# Altium schematic symbol library WE-PoE.SchLib: 44 symbols
Pins are listed as number, name and electrical type; pins without a type are passive.

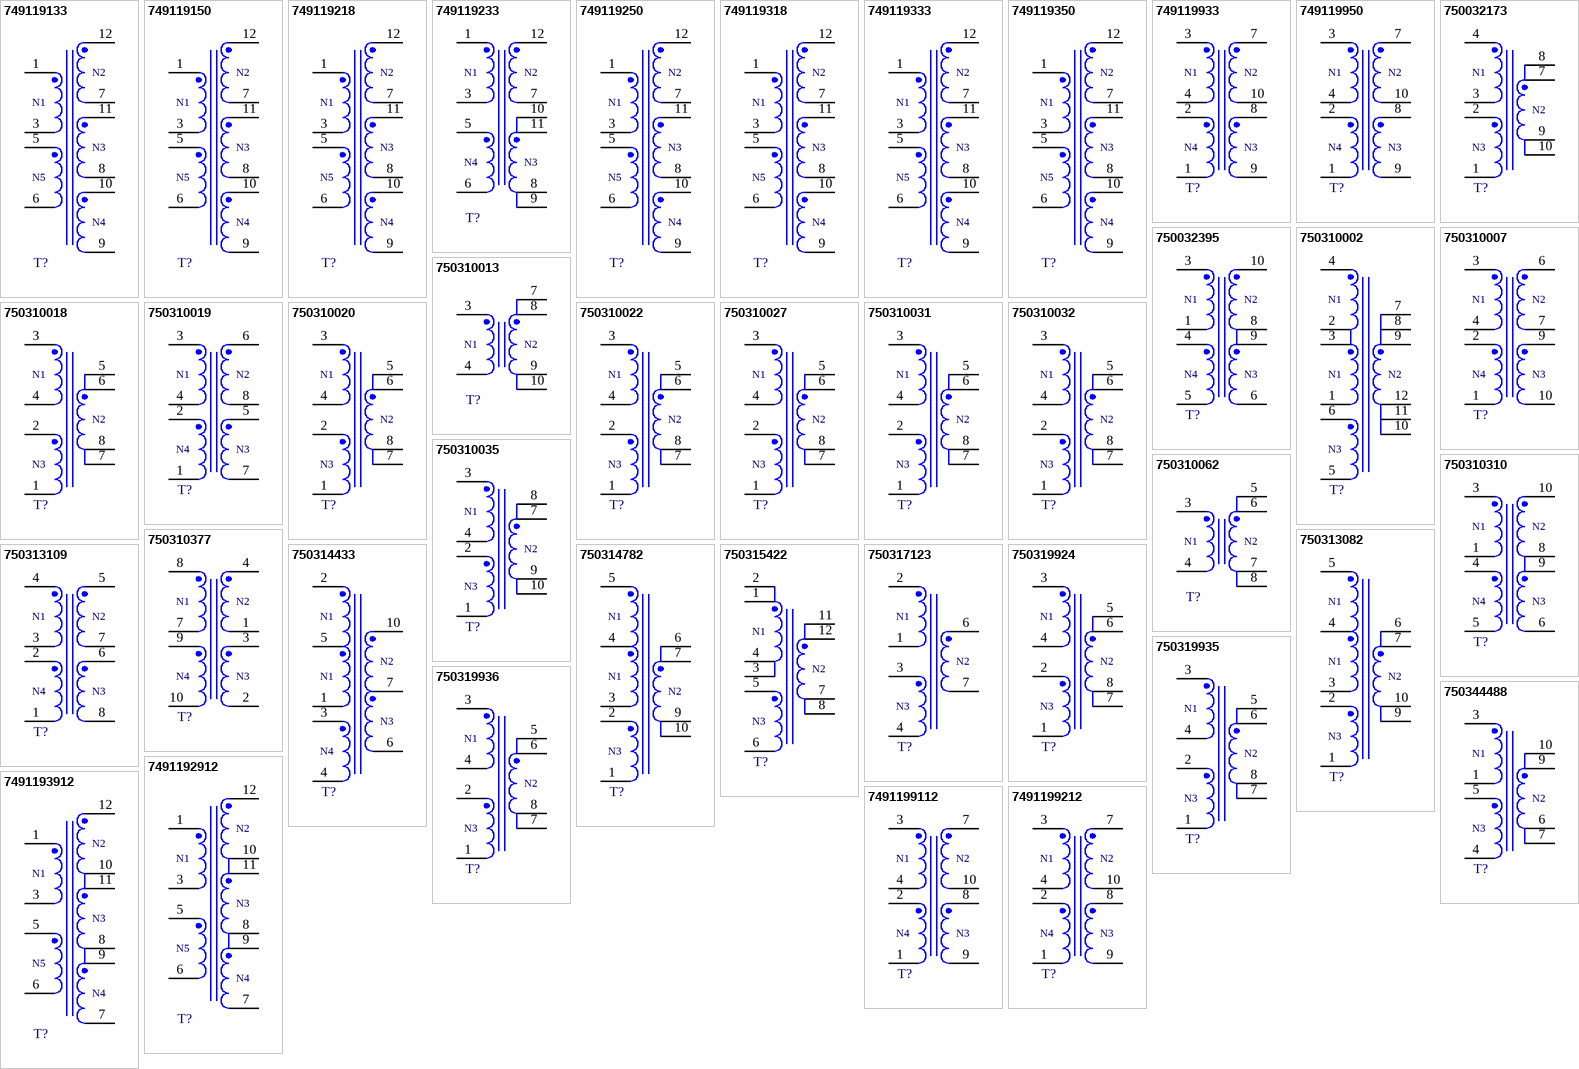
[diagram p0: symbols 749119133 to 7491199212]

## 749119133
designator T?  (value not drawn)
WE-PoE Power over Ethernet Transformer, SMT, ER11/5, 36-57Vin, Uo1 = 3.3V/0.4A, Uo2 = 3.3V/0.4A, Uo3 = 3.3V/0.4A; Manufacturer: Wurth Elektronik; Inductance: 400uH; Input Voltage: 36-57VDC; Insulation Test Voltage: 1500V; Leakage Inductance: 4uH; Output Power: 4W; Output Voltage 2: 3.3V; Saturation Current: 0.3A; Switching Frequency: 200-500kHz; Turns Ratio: 12:1:1:1:3; Manufacturer Part Number: 749119133; Category: Transformers For DC-DC Converter; Match Code: WE-PoE; ComponentLink1Description: Website Link; ComponentLink1URL: https://www.we-online.com/redexpert/article/749119133?ad; ComponentLink2Description: Datasheet Link; ComponentLink2URL: https://www.we-online.com/redexpert/spec/749119133?ad; Mount: Surface Mount; Operating Temperature Max: 125°C; Operating Temperature Min: -40°C; Packaging: Tape and Reel; Case/Size Code: ER11/5; Length: 12.9mm; Width: 9.2mm; Height: 6.2mm
footprint WE-PoE_ER11/5
simulation model 749119133
pins: 1, 3, 5, 6, 7, 8, 9, 10, 11, 12
text: N2; N1; N3; N5; N4

## 749119150
designator T?  (value not drawn)
WE-PoE Power over Ethernet Transformer, SMT, ER11/5, 36-57Vin, Uo1 = 5V/0.27A, Uo2 = 5V/0.27A, Uo3 = 5V/0.27A; Manufacturer: Wurth Elektronik; Inductance: 400uH; Input Voltage: 36-57VDC; Insulation Test Voltage: 1500V; Leakage Inductance: 4uH; Output Power: 4W; Output Voltage 2: 5V; Saturation Current: 0.3A; Switching Frequency: 200-500kHz; Turns Ratio: 7.2:1:1:1:1.8; Manufacturer Part Number: 749119150; Category: Transformers For DC-DC Converter; Match Code: WE-PoE; ComponentLink1Description: Website Link; ComponentLink1URL: https://www.we-online.com/redexpert/article/749119150?ad; ComponentLink2Description: Datasheet Link; ComponentLink2URL: https://www.we-online.com/redexpert/spec/749119150?ad; Mount: Surface Mount; Operating Temperature Max: 125°C; Operating Temperature Min: -40°C; Packaging: Tape and Reel; Case/Size Code: ER11/5; Length: 12.9mm; Width: 9.2mm; Height: 6.2mm
footprint WE-PoE_ER11/5
simulation model 749119150
pins: 1, 3, 5, 6, 7, 8, 9, 10, 11, 12
text: N2; N1; N3; N5; N4

## 749119218
designator T?  (value not drawn)
WE-PoE Power over Ethernet Transformer, SMT, ER14.5/6, 36-57Vin, Uo1 = 1.8V/1.3A, Uo2 = 1.8V/1.3A, Uo3 = 1.8V/1.3A; Manufacturer: Wurth Elektronik; Inductance: 210uH; Input Voltage: 36-57VDC; Insulation Test Voltage: 1500V; Leakage Inductance: 4.5uH; Output Power: 7W; Output Voltage 2: 1.8V; Saturation Current: 1.08A; Switching Frequency: 200-500kHz; Turns Ratio: 16.5:1:1:1:5.5; Manufacturer Part Number: 749119218; Category: Transformers For DC-DC Converter; Match Code: WE-PoE; ComponentLink1Description: Website Link; ComponentLink1URL: https://www.we-online.com/redexpert/article/749119218?ad; ComponentLink2Description: Datasheet Link; ComponentLink2URL: https://www.we-online.com/redexpert/spec/749119218?ad; Mount: Surface Mount; Operating Temperature Max: 125°C; Operating Temperature Min: -40°C; Packaging: Tape and Reel; Case/Size Code: ER14.5/6; Length: 16.3mm; Width: 12mm; Height: 7.4mm
footprint WE-PoE_ER14.5/6
simulation model 749119218
pins: 1, 3, 5, 6, 7, 8, 9, 10, 11, 12
text: N2; N1; N3; N5; N4

## 749119233
designator T?  (value not drawn)
WE-PoE Power over Ethernet Transformer, SMT, ER14.5/6, 36-57Vin, Uo1 = 3.3V/0.7A, Uo2 = 3.3V/1.4A; Manufacturer: Wurth Elektronik; Inductance: 210uH; Input Voltage: 36-57VDC; Insulation Test Voltage: 1500V; Leakage Inductance: 2.5uH; Output Power: 7W; Output Voltage 2: 3.3V; Saturation Current: 0.6A; Switching Frequency: 200-500kHz; Turns Ratio: 12:1:1:3; Manufacturer Part Number: 749119233; Category: Transformers For DC-DC Converter; Match Code: WE-PoE; ComponentLink1Description: Website Link; ComponentLink1URL: https://www.we-online.com/redexpert/article/749119233?ad; ComponentLink2Description: Datasheet Link; ComponentLink2URL: https://www.we-online.com/redexpert/spec/749119233?ad; Mount: Surface Mount; Operating Temperature Max: 125°C; Operating Temperature Min: -40°C; Packaging: Tape and Reel; Case/Size Code: ER14.5/6; Length: 16.3mm; Width: 12mm; Height: 7.4mm
footprint WE-PoE_ER14.5/6
simulation model 749119233
pins: 1, 3, 5, 6, 7, 8, 9, 10, 11, 12
text: N1; N2; N4; N3

## 749119250
designator T?  (value not drawn)
WE-PoE Power over Ethernet Transformer, SMT, ER14.5/6, 36-57Vin, Uo1 = 5V/0.47A, Uo2 = 5V/0.47A, Uo3 = 5V/0.47A; Manufacturer: Wurth Elektronik; Inductance: 210uH; Input Voltage: 36-57VDC; Insulation Test Voltage: 1500V; Leakage Inductance: 2.5uH; Output Power: 7W; Output Voltage 2: 5V; Saturation Current: 0.7A; Switching Frequency: 200-500kHz; Turns Ratio: 6:1:1:1:1.75; Manufacturer Part Number: 749119250; Category: Transformers For DC-DC Converter; Match Code: WE-PoE; ComponentLink1Description: Website Link; ComponentLink1URL: https://www.we-online.com/redexpert/article/749119250?ad; ComponentLink2Description: Datasheet Link; ComponentLink2URL: https://www.we-online.com/redexpert/spec/749119250?ad; Mount: Surface Mount; Operating Temperature Max: 125°C; Operating Temperature Min: -40°C; Packaging: Tape and Reel; Case/Size Code: ER14.5/6; Length: 16.3mm; Width: 12mm; Height: 7.4mm
footprint WE-PoE_ER14.5/6
simulation model 749119250
pins: 1, 3, 5, 6, 7, 8, 9, 10, 11, 12
text: N2; N1; N3; N5; N4

## 749119318
designator T?  (value not drawn)
WE-PoE Power over Ethernet Transformer, SMT, EFD15, 36-57Vin, Uo1 = 1.8V/2.4A, Uo2 = 1.8V/2.4A, Uo3 = 1.8V/2.4A; Manufacturer: Wurth Elektronik; Inductance: 120uH; Input Voltage: 36-57VDC; Insulation Test Voltage: 1500V; Leakage Inductance: 2.5uH; Output Power: 13W; Output Voltage 2: 1.8V; Saturation Current: 1A; Switching Frequency: 200-500kHz; Turns Ratio: 14:1:1:1:5.5; Manufacturer Part Number: 749119318; Category: Transformers For DC-DC Converter; Match Code: WE-PoE; ComponentLink1Description: Website Link; ComponentLink1URL: https://www.we-online.com/redexpert/article/749119318?ad; ComponentLink2Description: Datasheet Link; ComponentLink2URL: https://www.we-online.com/redexpert/spec/749119318?ad; Mount: Surface Mount; Operating Temperature Max: 125°C; Operating Temperature Min: -40°C; Packaging: Tape and Reel; Case/Size Code: EFD15; Length: 17.5mm; Width: 16mm; Height: 8.3mm
footprint WE-PoE_EFD15
simulation model 749119318
pins: 1, 3, 5, 6, 7, 8, 9, 10, 11, 12
text: N2; N1; N3; N5; N4

## 749119333
designator T?  (value not drawn)
WE-PoE Power over Ethernet Transformer, SMT, EFD15, 36-57Vin, Uo1 = 3.3V/1.35A, Uo2 = 3.3V/1.35A, Uo3 = 3.3V/1.35A; Manufacturer: Wurth Elektronik; Inductance: 120uH; Input Voltage: 36-57VDC; Insulation Test Voltage: 1500V; Leakage Inductance: 3.5uH; Output Power: 13W; Output Voltage 2: 3.3V; Saturation Current: 1.3A; Switching Frequency: 200-500kHz; Turns Ratio: 12:1:1:1:3; Manufacturer Part Number: 749119333; Category: Transformers For DC-DC Converter; Match Code: WE-PoE; ComponentLink1Description: Website Link; ComponentLink1URL: https://www.we-online.com/redexpert/article/749119333?ad; ComponentLink2Description: Datasheet Link; ComponentLink2URL: https://www.we-online.com/redexpert/spec/749119333?ad; Mount: Surface Mount; Operating Temperature Max: 125°C; Operating Temperature Min: -40°C; Packaging: Tape and Reel; Case/Size Code: EFD15; Length: 17.5mm; Width: 16mm; Height: 8.3mm
footprint WE-PoE_EFD15
simulation model 749119333
pins: 1, 3, 5, 6, 7, 8, 9, 10, 11, 12
text: N2; N1; N3; N5; N4

## 749119350
designator T?  (value not drawn)
WE-PoE Power over Ethernet Transformer, SMT, EFD15, 36-57Vin, Uo1 = 5V/0.9A, Uo2 = 5V/0.9A, Uo3 = 5V/0.9A; Manufacturer: Wurth Elektronik; Inductance: 120uH; Input Voltage: 36-57VDC; Insulation Test Voltage: 1500V; Leakage Inductance: 2.5uH; Output Power: 13W; Output Voltage 2: 5V; Saturation Current: 1.4A; Switching Frequency: 200-500kHz; Turns Ratio: 7.2:1:1:1:1.8; Manufacturer Part Number: 749119350; Category: Transformers For DC-DC Converter; Match Code: WE-PoE; ComponentLink1Description: Website Link; ComponentLink1URL: https://www.we-online.com/redexpert/article/749119350?ad; ComponentLink2Description: Datasheet Link; ComponentLink2URL: https://www.we-online.com/redexpert/spec/749119350?ad; Mount: Surface Mount; Operating Temperature Max: 125°C; Operating Temperature Min: -40°C; Packaging: Tape and Reel; Case/Size Code: EFD15; Length: 17.5mm; Width: 16mm; Height: 8.3mm
footprint WE-PoE_EFD15
simulation model 749119350
pins: 1, 3, 5, 6, 7, 8, 9, 10, 11, 12
text: N2; N1; N3; N5; N4

## 749119933
designator T?  (value not drawn)
WE-PoE Power over Ethernet Transformer, SMT, EP13, 36-57Vin, Uo1 = 3.3V/2A, Uo2 = 3.3V/2A; Manufacturer: Wurth Elektronik; Inductance: 127uH; Input Voltage: 36-57VDC; Insulation Test Voltage: 1500V; Leakage Inductance: 1.3uH; Output Power: 13W; Output Voltage 2: 3.3V; Saturation Current: 1.42A; Switching Frequency: 200-500kHz; Turns Ratio: 6:1:1:3; Manufacturer Part Number: 749119933; Category: Transformers For DC-DC Converter; Match Code: WE-PoE; ComponentLink1Description: Website Link; ComponentLink1URL: https://www.we-online.com/redexpert/article/749119933?ad; ComponentLink2Description: Datasheet Link; ComponentLink2URL: https://www.we-online.com/redexpert/spec/749119933?ad; Mount: Surface Mount; Operating Temperature Max: 125°C; Operating Temperature Min: -40°C; Packaging: Tape and Reel; Case/Size Code: EP13; Length: 13.46mm; Width: 13mm; Height: 12.7mm
footprint WE-PoE_EP13_L13.46W13H12.7 (Power over Ethernet Transformer, size EP13)
simulation model 749119933
pins: 1, 2, 3, 4, 7, 8, 9, 10
text: N1; N2; N4; N3

## 749119950
designator T?  (value not drawn)
WE-PoE Power over Ethernet Transformer, SMT, EP13, 36-57Vin, Uo1 = 5V/1.3A, Uo2 = 5V/1.3A; Manufacturer: Wurth Elektronik; Inductance: 127uH; Input Voltage: 36-57VDC; Insulation Test Voltage: 1500V; Leakage Inductance: 1.3uH; Output Power: 13W; Output Voltage 2: 5V; Saturation Current: 1.7A; Switching Frequency: 200-500kHz; Turns Ratio: 4:1:1:2; Manufacturer Part Number: 749119950; Category: Transformers For DC-DC Converter; Match Code: WE-PoE; ComponentLink1Description: Website Link; ComponentLink1URL: https://www.we-online.com/redexpert/article/749119950?ad; ComponentLink2Description: Datasheet Link; ComponentLink2URL: https://www.we-online.com/redexpert/spec/749119950?ad; Mount: Surface Mount; Operating Temperature Max: 125°C; Operating Temperature Min: -40°C; Packaging: Tape and Reel; Case/Size Code: EP13; Length: 13.46mm; Width: 13mm; Height: 12.7mm
footprint WE-PoE_EP13_L13.46W13H12.7 (Power over Ethernet Transformer, size EP13)
simulation model 749119950
pins: 1, 2, 3, 4, 7, 8, 9, 10
text: N1; N2; N4; N3

## 750032173
designator T?  (value not drawn)
WE-PoE Power over Ethernet Transformer, SMT, EP13, 33-57Vin, Uo1 = 12V/1.125A; Manufacturer: Wurth Elektronik; Auxiliary Voltage: 8V; Inductance: 127uH; Input Voltage: 33-57VDC; Insulation Test Voltage: 1500V; Leakage Inductance: 7.5uH; Output Current 1: 1.125A; Output Voltage 1: 12V; Switching Frequency: 200-500kHz; Manufacturer Part Number: 750032173; Category: Transformers For DC-DC Converter; Match Code: WE-PoE; ComponentLink1Description: Website Link; ComponentLink1URL: https://www.we-online.com/redexpert/article/750032173?ad; ComponentLink2Description: Datasheet Link; ComponentLink2URL: https://www.we-online.com/redexpert/spec/750032173?ad; Mount: Surface Mount; Operating Temperature Max: 125°C; Operating Temperature Min: -40°C; Packaging: Tape and Reel; Case/Size Code: EP13; Length: 17.75mm; Width: 13.46mm; Height: 12.7mm
footprint WE-PoE_EP13_L17.75W13.46H12.7
pins: 1, 2, 3, 4, 7, 8, 9, 10
text: N1; N2; N3

## 750032395
designator T?  (value not drawn)
WE-PoE Power over Ethernet Transformer, SMT, EP13, 13-59Vin, Uo1 = 5V/0.5A, Uo2 = 3.3V/3.2A; Manufacturer: Wurth Elektronik; Auxiliary Voltage: 12V; Inductance: 37uH; Input Voltage: 13-59VDC; Insulation Test Voltage: 1500V; Leakage Inductance: 5uH; Output Current 1: 0.5A; Output Current 2: 3.2A; Output Voltage 1: 5V; Output Voltage 2: 3.3V; Switching Frequency: 200-500kHz; Manufacturer Part Number: 750032395; Category: Transformers For DC-DC Converter; Match Code: WE-PoE; ComponentLink1Description: Website Link; ComponentLink1URL: https://www.we-online.com/redexpert/article/750032395?ad; ComponentLink2Description: Datasheet Link; ComponentLink2URL: https://www.we-online.com/redexpert/spec/750032395?ad; Mount: Surface Mount; Operating Temperature Max: 125°C; Operating Temperature Min: -40°C; Packaging: Tape and Reel; Case/Size Code: EP13; Length: 17.75mm; Width: 13.46mm; Height: 12.7mm
footprint WE-PoE_EP13_L17.75W13.46H12.7
pins: 1, 3, 4, 5, 6, 8, 9, 10
text: N1; N2; N4; N3

## 750310002
designator T?  (value not drawn)
WE-PoE Power over Ethernet Transformer, SMT, EFD20, 20-72Vin, Uo1 = 5V/4A; Manufacturer: Wurth Elektronik; Auxiliary Voltage: 15V; Inductance: 28uH; Input Voltage: 20-72VDC; Insulation Test Voltage: 1500V; Leakage Inductance: 0.8uH; Output Current 1: 4A; Output Voltage 1: 5V; Switching Frequency: 200-500kHz; Turns Ratio: 3.5:1:2.75; Manufacturer Part Number: 750310002; Category: Transformers For DC-DC Converter; Match Code: WE-PoE; ComponentLink1Description: Website Link; ComponentLink1URL: https://www.we-online.com/redexpert/article/750310002?ad; ComponentLink2Description: Datasheet Link; ComponentLink2URL: https://www.we-online.com/redexpert/spec/750310002?ad; Mount: Surface Mount; Operating Temperature Max: 125°C; Operating Temperature Min: -40°C; Packaging: Tape and Reel; Case/Size Code: EFD20; Length: 29.65mm; Width: 21.8mm; Height: 11.43mm
footprint WE-PoE_EFD20
pins: 1, 2, 3, 4, 5, 6, 7, 8, 9, 10, 11, 12
text: N1; N2; N3

## 750310007
designator T?  (value not drawn)
WE-PoE Power over Ethernet Transformer, SMT, EP13, 35-57Vin, Uo1 = 3.3V/2.5A, Uo2 = 12V/0.33A; Manufacturer: Wurth Elektronik; Auxiliary Voltage: 12V; Inductance: 127uH; Input Voltage: 35-57VDC; Insulation Test Voltage: 1500V; Leakage Inductance: 1.2uH; Output Current 1: 2.5A; Output Current 2: 0.33A; Output Voltage 1: 3.3V; Switching Frequency: 200-500kHz; Manufacturer Part Number: 750310007; Category: Transformers For DC-DC Converter; Match Code: WE-PoE; ComponentLink1Description: Website Link; ComponentLink1URL: https://www.we-online.com/redexpert/article/750310007?ad; ComponentLink2Description: Datasheet Link; ComponentLink2URL: https://www.we-online.com/redexpert/spec/750310007?ad; Mount: Surface Mount; Operating Temperature Max: 125°C; Operating Temperature Min: -40°C; Packaging: Tape and Reel; Case/Size Code: EP13; Length: 17.75mm; Width: 13.46mm; Height: 12.7mm; Output Voltage 2: 12V
footprint WE-PoE_EP13_L17.75W13.46H12.7
pins: 1, 2, 3, 4, 6, 7, 9, 10
text: N1; N2; N4; N3

## 750310013
designator T?  (value not drawn)
WE-PoE Power over Ethernet Transformer, SMT, EP13, 36-57Vin, Uo1 = 5V/2.6A; Manufacturer: Wurth Elektronik; Inductance: 127uH; Input Voltage: 36-57VDC; Insulation Test Voltage: 1500V; Leakage Inductance: 1uH; Output Power: 13W; Saturation Current: 1.5A; Switching Frequency: 200-500kHz; Turns Ratio: 4:1; Manufacturer Part Number: 750310013; Category: Transformers For DC-DC Converter; Match Code: WE-PoE; ComponentLink1Description: Website Link; ComponentLink1URL: https://www.we-online.com/redexpert/article/750310013?ad; ComponentLink2Description: Datasheet Link; ComponentLink2URL: https://www.we-online.com/redexpert/spec/750310013?ad; Mount: Surface Mount; Operating Temperature Max: 125°C; Operating Temperature Min: -40°C; Packaging: Tape and Reel; Case/Size Code: EP13; Length: 13.46mm; Width: 13mm; Height: 12.7mm
footprint WE-PoE_EP13_L13.46W13H12.7 (Power over Ethernet Transformer, size EP13)
simulation model 750310013
pins: 3, 4, 7, 8, 9, 10
text: N1; N2

## 750310018
designator T?  (value not drawn)
WE-PoE Power over Ethernet Transformer, SMT, EP7, 33-57Vin, Uo1 = 3.3V/0.91A; Manufacturer: Wurth Elektronik; Auxiliary Voltage: 8V; Inductance: 500uH; Input Voltage: 33-57VDC; Insulation Test Voltage: 1500V; Leakage Inductance: 7.5uH; Output Current 1: 0.91A; Output Voltage 1: 3.3V; Switching Frequency: 200-500kHz; Manufacturer Part Number: 750310018; Category: Transformers For DC-DC Converter; Match Code: WE-PoE; ComponentLink1Description: Website Link; ComponentLink1URL: https://www.we-online.com/redexpert/article/750310018?ad; ComponentLink2Description: Datasheet Link; ComponentLink2URL: https://www.we-online.com/redexpert/spec/750310018?ad; Mount: Surface Mount; Operating Temperature Max: 125°C; Operating Temperature Min: -40°C; Packaging: Tape and Reel; Case/Size Code: EP7; Length: 13.35mm; Width: 10.8mm; Height: 9.14mm
footprint WE-PoE_EP7_L13.35W10.8H9.14
pins: 1, 2, 3, 4, 5, 6, 7, 8
text: N1; N2; N3

## 750310019
designator T?  (value not drawn)
WE-PoE Power over Ethernet Transformer, SMT, EP7, 36-57Vin, Uo1 = 3.3V/0.91A; Manufacturer: Wurth Elektronik; Auxiliary Voltage: 12V; Inductance: 310uH; Input Voltage: 36-57VDC; Insulation Test Voltage: 1500V; Leakage Inductance: 5uH; Output Current 1: 0.91A; Output Voltage 1: 3.3V; Switching Frequency: 200-500kHz; Manufacturer Part Number: 750310019; Category: Transformers For DC-DC Converter; Match Code: WE-PoE; ComponentLink1Description: Website Link; ComponentLink1URL: https://www.we-online.com/redexpert/article/750310019?ad; ComponentLink2Description: Datasheet Link; ComponentLink2URL: https://www.we-online.com/redexpert/spec/750310019?ad; Mount: Surface Mount; Operating Temperature Max: 125°C; Operating Temperature Min: -40°C; Packaging: Tape and Reel; Case/Size Code: EP7; Length: 13.35mm; Width: 10.8mm; Height: 9.14mm
footprint WE-PoE_EP7_L13.35W10.8H9.14
pins: 1, 2, 3, 4, 5, 6, 7, 8
text: N1; N2; N4; N3

## 750310020
designator T?  (value not drawn)
WE-PoE Power over Ethernet Transformer, SMT, EP7, 33-57Vin, Uo1 = 5V/0.6A; Manufacturer: Wurth Elektronik; Auxiliary Voltage: 8V; Inductance: 500uH; Input Voltage: 33-57VDC; Insulation Test Voltage: 1500V; Leakage Inductance: 7.5uH; Output Current 1: 0.6A; Output Current 2: 0.02A; Output Voltage 1: 5V; Switching Frequency: 200-500kHz; Manufacturer Part Number: 750310020; Category: Transformers For DC-DC Converter; Match Code: WE-PoE; ComponentLink1Description: Website Link; ComponentLink1URL: https://www.we-online.com/redexpert/article/750310020?ad; ComponentLink2Description: Datasheet Link; ComponentLink2URL: https://www.we-online.com/redexpert/spec/750310020?ad; Mount: Surface Mount; Operating Temperature Max: 125°C; Operating Temperature Min: -40°C; Packaging: Tape and Reel; Case/Size Code: EP7; Length: 13.35mm; Width: 10.8mm; Height: 9.14mm
footprint WE-PoE_EP7_L13.35W10.8H9.14
pins: 1, 2, 3, 4, 5, 6, 7, 8
text: N1; N2; N3

## 750310022
designator T?  (value not drawn)
WE-PoE Power over Ethernet Transformer, SMT, EP7, 33-57Vin, Uo1 = 12V/0.25A; Manufacturer: Wurth Elektronik; Auxiliary Voltage: 8V; Inductance: 521uH; Input Voltage: 33-57VDC; Insulation Test Voltage: 1500V; Leakage Inductance: 7.5uH; Output Current 1: 0.25A; Output Voltage 1: 12V; Switching Frequency: 200-500kHz; Manufacturer Part Number: 750310022; Category: Transformers For DC-DC Converter; Match Code: WE-PoE; ComponentLink1Description: Website Link; ComponentLink1URL: https://www.we-online.com/redexpert/article/750310022?ad; ComponentLink2Description: Datasheet Link; ComponentLink2URL: https://www.we-online.com/redexpert/spec/750310022?ad; Mount: Surface Mount; Operating Temperature Max: 125°C; Operating Temperature Min: -40°C; Packaging: Tape and Reel; Case/Size Code: EP7; Length: 13.35mm; Width: 10.8mm; Height: 9.14mm
footprint WE-PoE_EP7_L13.35W10.8H9.14
pins: 1, 2, 3, 4, 5, 6, 7, 8
text: N1; N2; N3

## 750310027
designator T?  (value not drawn)
WE-PoE Power over Ethernet Transformer, SMT, EP10, 9-50Vin, Uo1 = 3.3V/3A; Manufacturer: Wurth Elektronik; Auxiliary Voltage: 8V; Inductance: 20.4uH; Input Voltage: 9-50VDC; Insulation Test Voltage: 1500V; Leakage Inductance: 1.5uH; Output Current 1: 3A; Output Voltage 1: 3.3V; Switching Frequency: 200-500kHz; Manufacturer Part Number: 750310027; Category: Transformers For DC-DC Converter; Match Code: WE-PoE; ComponentLink1Description: Website Link; ComponentLink1URL: https://www.we-online.com/redexpert/article/750310027?ad; ComponentLink2Description: Datasheet Link; ComponentLink2URL: https://www.we-online.com/redexpert/spec/750310027?ad; Mount: Surface Mount; Operating Temperature Max: 125°C; Operating Temperature Min: -40°C; Packaging: Tape and Reel; Case/Size Code: EP10; Length: 15.24mm; Width: 13.34mm; Height: 11.43mm
footprint WE-PoE_EP10
pins: 1, 2, 3, 4, 5, 6, 7, 8
text: N1; N2; N3

## 750310031
designator T?  (value not drawn)
WE-PoE Power over Ethernet Transformer, SMT, EP10, 33-57Vin, Uo1 = 12V/0.58A; Manufacturer: Wurth Elektronik; Auxiliary Voltage: 8V; Inductance: 264uH; Input Voltage: 33-57VDC; Insulation Test Voltage: 1500V; Leakage Inductance: 7.5uH; Output Current 1: 0.58A; Output Voltage 1: 12V; Switching Frequency: 200-500kHz; Manufacturer Part Number: 750310031; Category: Transformers For DC-DC Converter; Match Code: WE-PoE; ComponentLink1Description: Website Link; ComponentLink1URL: https://www.we-online.com/redexpert/article/750310031?ad; ComponentLink2Description: Datasheet Link; ComponentLink2URL: https://www.we-online.com/redexpert/spec/750310031?ad; Mount: Surface Mount; Operating Temperature Max: 125°C; Operating Temperature Min: -40°C; Packaging: Tape and Reel; Case/Size Code: EP10; Length: 15.24mm; Width: 13.34mm; Height: 11.43mm
footprint WE-PoE_EP10
pins: 1, 2, 3, 4, 5, 6, 7, 8
text: N1; N2; N3

## 750310032
designator T?  (value not drawn)
WE-PoE Power over Ethernet Transformer, SMT, EP10, 33-57Vin, Uo1 = 12V/0.58A; Manufacturer: Wurth Elektronik; Auxiliary Voltage: 12V; Inductance: 155uH; Input Voltage: 33-57VDC; Insulation Test Voltage: 1500V; Leakage Inductance: 5uH; Output Current 1: 0.58A; Switching Frequency: 200-500kHz; Manufacturer Part Number: 750310032; Category: Transformers For DC-DC Converter; Match Code: WE-PoE; ComponentLink1Description: Website Link; ComponentLink1URL: https://www.we-online.com/redexpert/article/750310032?ad; ComponentLink2Description: Datasheet Link; ComponentLink2URL: https://www.we-online.com/redexpert/spec/750310032?ad; Mount: Surface Mount; Operating Temperature Max: 125°C; Operating Temperature Min: -40°C; Packaging: Tape and Reel; Case/Size Code: EP10; Length: 15.24mm; Width: 13.34mm; Height: 11.43mm; Output Voltage 1: 12V
footprint WE-PoE_EP10
pins: 1, 2, 3, 4, 5, 6, 7, 8
text: N1; N2; N3

## 750310035
designator T?  (value not drawn)
WE-PoE Power over Ethernet Transformer, SMT, EP13, 33-57Vin, Uo1 = 5V/2.7A; Manufacturer: Wurth Elektronik; Auxiliary Voltage: 12V; Inductance: 77.4uH; Input Voltage: 33-57VDC; Insulation Test Voltage: 1500V; Leakage Inductance: 0.8uH; Output Current 1: 2.7A; Output Voltage 1: 5V; Switching Frequency: 200-500kHz; Manufacturer Part Number: 750310035; Category: Transformers For DC-DC Converter; Match Code: WE-PoE; ComponentLink1Description: Website Link; ComponentLink1URL: https://www.we-online.com/redexpert/article/750310035?ad; ComponentLink2Description: Datasheet Link; ComponentLink2URL: https://www.we-online.com/redexpert/spec/750310035?ad; Mount: Surface Mount; Operating Temperature Max: 125°C; Operating Temperature Min: -40°C; Packaging: Tape and Reel; Case/Size Code: EP13; Length: 17.75mm; Width: 13.46mm; Height: 12.7mm
footprint WE-PoE_EP13_L17.75W13.46H12.7
pins: 1, 2, 3, 4, 7, 8, 9, 10
text: N1; N2; N3

## 750310062
designator T?  (value not drawn)
WE-PoE Power over Ethernet Transformer, SMT, EP10, 36-57Vin, Uo1 = 5V/2A; Manufacturer: Wurth Elektronik; Inductance: 127uH; Input Voltage: 36-57VDC; Insulation Test Voltage: 1500V; Leakage Inductance: 3uH; Output Power: 10W; Saturation Current: 1.5A; Switching Frequency: 200-500kHz; Turns Ratio: 4:1; Manufacturer Part Number: 750310062; Category: Transformers For DC-DC Converter; Match Code: WE-PoE; ComponentLink1Description: Website Link; ComponentLink1URL: https://www.we-online.com/redexpert/article/750310062?ad; ComponentLink2Description: Datasheet Link; ComponentLink2URL: https://www.we-online.com/redexpert/spec/750310062?ad; Mount: Surface Mount; Operating Temperature Max: 125°C; Operating Temperature Min: -40°C; Packaging: Tape and Reel; Case/Size Code: EP10; Length: 13.34mm; Width: 10.54mm; Height: 11.43mm
footprint WE-PoE_EP10
simulation model 750310062
pins: 3, 4, 5, 6, 7, 8
text: N1; N2

## 750310310
designator T?  (value not drawn)
WE-PoE Power over Ethernet Transformer, SMT, EP13, 13-59Vin, Uo1 = 6.6V/0.2A, Uo2 = 3.3V/2.5A; Manufacturer: Wurth Elektronik; Auxiliary Voltage: 10V; Inductance: 37uH; Input Voltage: 13-59VDC; Insulation Test Voltage: 1500V; Leakage Inductance: 5uH; Output Current 1: 0.2A; Output Current 2: 2.5A; Output Voltage 1: 6.6V; Output Voltage 2: 3.3V; Switching Frequency: 200-500kHz; Manufacturer Part Number: 750310310; Category: Transformers For DC-DC Converter; Match Code: WE-PoE; ComponentLink1Description: Website Link; ComponentLink1URL: https://www.we-online.com/redexpert/article/750310310?ad; ComponentLink2Description: Datasheet Link; ComponentLink2URL: https://www.we-online.com/redexpert/spec/750310310?ad; Mount: Surface Mount; Operating Temperature Max: 125°C; Operating Temperature Min: -40°C; Packaging: Tape and Reel; Case/Size Code: EP13; Length: 17.75mm; Width: 13.46mm; Height: 12.7mm
footprint WE-PoE_EP13_L17.75W13.46H12.7
pins: 1, 3, 4, 5, 6, 8, 9, 10
text: N1; N2; N4; N3

## 750310377
designator T?  (value not drawn)
WE-PoE Power over Ethernet Transformer, SMT, EP13, 36-57Vin, Uo1 = 12V/1.08A; Manufacturer: Wurth Elektronik; Auxiliary Voltage: 12V; Inductance: 127uH; Input Voltage: 36-57VDC; Insulation Test Voltage: 1500V; Leakage Inductance: 0.65uH; Output Current 1: 1.08A; Switching Frequency: 200-500kHz; Manufacturer Part Number: 750310377; Category: Transformers For DC-DC Converter; Match Code: WE-PoE; ComponentLink1Description: Website Link; ComponentLink1URL: https://www.we-online.com/redexpert/article/750310377?ad; ComponentLink2Description: Datasheet Link; ComponentLink2URL: https://www.we-online.com/redexpert/spec/750310377?ad; Mount: Surface Mount; Operating Temperature Max: 125°C; Operating Temperature Min: -40°C; Packaging: Tape and Reel; Case/Size Code: EP13; Length: 17.75mm; Width: 13.46mm; Height: 12.7mm; Output Voltage 1: 12V
footprint WE-PoE_EP13_L17.75W13.46H12.7
pins: 1, 2, 3, 4, 7, 8, 9, 10
text: N1; N2; N4; N3

## 750313082
designator T?  (value not drawn)
WE-PoE Power over Ethernet Transformer, SMT, EP13, 40-57Vin, Uo1 = 5V/4.6A; Manufacturer: Wurth Elektronik; Auxiliary Voltage: 12V; Inductance: 37uH; Input Voltage: 40-57VDC; Insulation Test Voltage: 2400V; Leakage Inductance: 0.6uH; Output Current 1: 4.6A; Output Voltage 1: 5V; Saturation Current: 3A; Switching Frequency: 200-500kHz; Manufacturer Part Number: 750313082; Category: Transformers For DC-DC Converter; Match Code: WE-PoE; ComponentLink1Description: Website Link; ComponentLink1URL: https://www.we-online.com/redexpert/article/750313082?ad; ComponentLink2Description: Datasheet Link; ComponentLink2URL: https://www.we-online.com/redexpert/spec/750313082?ad; Mount: Surface Mount; Operating Temperature Max: 125°C; Operating Temperature Min: -40°C; Packaging: Tape and Reel; Case/Size Code: EP13; Length: 17.75mm; Width: 13.46mm; Height: 12.7mm
footprint WE-PoE_EP13_L17.75W13.46H12.7
pins: 1, 2, 3, 4, 5, 6, 7, 9, 10
text: N1; N2; N3

## 750313109
designator T?  (value not drawn)
WE-PoE Power over Ethernet Transformer, SMT, EP7, 36-57Vin, Uo1 = 5V/2.3A; Manufacturer: Wurth Elektronik; Auxiliary Voltage: 12V; Inductance: 44uH; Input Voltage: 36-57VDC; Insulation Test Voltage: 2400V; Leakage Inductance: 1.5uH; Output Current 1: 2.3A; Output Voltage 1: 5V; Saturation Current: 1.8A; Switching Frequency: 200-500kHz; Manufacturer Part Number: 750313109; Category: Transformers For DC-DC Converter; Match Code: WE-PoE; ComponentLink1Description: Website Link; ComponentLink1URL: https://www.we-online.com/redexpert/article/750313109?ad; ComponentLink2Description: Datasheet Link; ComponentLink2URL: https://www.we-online.com/redexpert/spec/750313109?ad; Mount: Surface Mount; Operating Temperature Max: 125°C; Operating Temperature Min: -40°C; Packaging: Tape and Reel; Case/Size Code: EP7; Length: 9.5mm; Width: 9.78mm; Height: 10.54mm
footprint WE-PoE_EP7_L9.5W9.78H10.54
pins: 1, 2, 3, 4, 5, 6, 7, 8
text: N1; N2; N4; N3

## 750314433
designator T?  (value not drawn)
WE-PoE Power over Ethernet Transformer, SMT, EP13, 36-57Vin, Uo1 = 5V/2A, Uo2 = 5V/A; Manufacturer: Wurth Elektronik; Auxiliary Voltage: 10V; Inductance: 180uH; Input Voltage: 36-57VDC; Insulation Test Voltage: 1500V; Leakage Inductance: 1.8uH; Output Current 1: 2A; Output Voltage 1: 5V; Saturation Current: 1A; Switching Frequency: 200-500kHz; Manufacturer Part Number: 750314433; Category: Transformers For DC-DC Converter; Match Code: WE-PoE; ComponentLink1Description: Website Link; ComponentLink1URL: https://www.we-online.com/redexpert/article/750314433?ad; ComponentLink2Description: Datasheet Link; ComponentLink2URL: https://www.we-online.com/redexpert/spec/750314433?ad; Mount: Surface Mount; Operating Temperature Max: 125°C; Operating Temperature Min: -40°C; Packaging: Tape and Reel; Case/Size Code: EP13; Length: 17.75mm; Width: 13.46mm; Height: 12.7mm; Output Voltage 2: 5V
footprint WE-PoE_EP13_L17.75W13.46H12.7
pins: 1, 2, 3, 4, 5, 6, 7, 10
text: N1; N2; N3; N4

## 750314782
designator T?  (value not drawn)
WE-PoE Power over Ethernet Transformer, SMT, EP13, 40-57Vin, Uo1 = 24V/1A; Manufacturer: Wurth Elektronik; Auxiliary Voltage: 12.5V; Inductance: 37uH; Input Voltage: 40-57VDC; Insulation Test Voltage: 2400V; Leakage Inductance: 0.4uH; Output Current 1: 1A; Output Voltage 1: 24V; Saturation Current: 2.75A; Switching Frequency: 200-500kHz; Manufacturer Part Number: 750314782; Category: Transformers For DC-DC Converter; Match Code: WE-PoE; ComponentLink1Description: Website Link; ComponentLink1URL: https://www.we-online.com/redexpert/article/750314782?ad; ComponentLink2Description: Datasheet Link; ComponentLink2URL: https://www.we-online.com/redexpert/spec/750314782?ad; Mount: Surface Mount; Operating Temperature Max: 125°C; Operating Temperature Min: -40°C; Packaging: Tape and Reel; Case/Size Code: EP13; Length: 17.75mm; Width: 13.46mm; Height: 12.7mm
footprint WE-PoE_EP13_L17.75W13.46H12.7
pins: 1, 2, 3, 4, 5, 6, 7, 9, 10
text: N1; N2; N3

## 750315422
designator T?  (value not drawn)
WE-PoE Power over Ethernet Transformer, SMT, EFD20, 9-57Vin, Uo1 = 12V/2A; Manufacturer: Wurth Elektronik; Auxiliary Voltage: 10V; Inductance: 9uH; Input Voltage: 9-57VDC; Insulation Test Voltage: 1500V; Leakage Inductance: 0.32uH; Output Current 1: 2A; Output Voltage 1: 12V; Saturation Current: 8.5A; Switching Frequency: 200-500kHz; Turns Ratio: 1:1.12:1; Manufacturer Part Number: 750315422; Category: Transformers For DC-DC Converter; Match Code: WE-PoE; ComponentLink1Description: Website Link; ComponentLink1URL: https://www.we-online.com/redexpert/article/750315422?ad; ComponentLink2Description: Datasheet Link; ComponentLink2URL: https://www.we-online.com/redexpert/spec/750315422?ad; Mount: Surface Mount; Operating Temperature Max: 125°C; Operating Temperature Min: -40°C; Packaging: Tape and Reel; Case/Size Code: EFD20; Length: 29.65mm; Width: 21.8mm; Height: 11.43mm
footprint WE-PoE_EFD20
pins: 1, 2, 3, 4, 5, 6, 7, 8, 11, 12
text: N1; N2; N3

## 750317123
designator T?  (value not drawn)
WE-PoE Power over Ethernet Transformer, SMT, RM6, 32-57Vin, Uo1 = 12V/1A; Manufacturer: Wurth Elektronik; Auxiliary Voltage: 9V; Inductance: 82uH; Input Voltage: 32-57VDC; Insulation Test Voltage: 1500V; Leakage Inductance: 1.2uH; Output Current 1: 1A; Output Voltage 1: 12V; Saturation Current: 2.7A; Switching Frequency: 200-500kHz; Manufacturer Part Number: 750317123; Category: Transformers For DC-DC Converter; Match Code: WE-PoE; ComponentLink1Description: Website Link; ComponentLink1URL: https://www.we-online.com/redexpert/article/750317123?ad; ComponentLink2Description: Datasheet Link; ComponentLink2URL: https://www.we-online.com/redexpert/spec/750317123?ad; Mount: Surface Mount; Operating Temperature Max: 125°C; Operating Temperature Min: -40°C; Packaging: Tape and Reel; Case/Size Code: RM6; Length: 21.89mm; Width: 20.07mm; Height: 13.34mm
footprint WE-PoE_RM6
pins: 1, 2, 3, 4, 6, 7
text: N1; N2; N3

## 750319924
designator T?  (value not drawn)
WE-PoE Power over Ethernet Transformer, SMT, EP10, 40-57Vin, Uo1 = 3.3V/2.1A; Manufacturer: Wurth Elektronik; Auxiliary Voltage: 12V; Inductance: 235uH; Input Voltage: 40-57VDC; Insulation Test Voltage: 1500V; Leakage Inductance: 4uH; Output Current 1: 2.1A; Output Voltage 1: 3.3V; Saturation Current: 0.76A; Switching Frequency: 200-500kHz; Manufacturer Part Number: 750319924; Category: Transformers For DC-DC Converter; Match Code: WE-PoE; ComponentLink1Description: Website Link; ComponentLink1URL: https://www.we-online.com/redexpert/article/750319924?ad; ComponentLink2Description: Datasheet Link; ComponentLink2URL: https://www.we-online.com/redexpert/spec/750319924?ad; Mount: Surface Mount; Operating Temperature Max: 125°C; Operating Temperature Min: -40°C; Packaging: Tape and Reel; Case/Size Code: EP10; Length: 15.24mm; Width: 13.34mm; Height: 11.43mm
footprint WE-PoE_EP10
pins: 1, 2, 3, 4, 5, 6, 7, 8
text: N1; N2; N3

## 750319935
designator T?  (value not drawn)
WE-PoE Power over Ethernet Transformer, SMT, EP10, 40-57Vin, Uo1 = 5V/1.4A; Manufacturer: Wurth Elektronik; Auxiliary Voltage: 12V; Inductance: 235uH; Input Voltage: 40-57VDC; Insulation Test Voltage: 1500V; Leakage Inductance: 3.5uH; Output Current 1: 1.4A; Output Voltage 1: 5V; Saturation Current: 0.7A; Switching Frequency: 200-500kHz; Manufacturer Part Number: 750319935; Category: Transformers For DC-DC Converter; Match Code: WE-PoE; ComponentLink1Description: Website Link; ComponentLink1URL: https://www.we-online.com/redexpert/article/750319935?ad; ComponentLink2Description: Datasheet Link; ComponentLink2URL: https://www.we-online.com/redexpert/spec/750319935?ad; Mount: Surface Mount; Operating Temperature Max: 125°C; Operating Temperature Min: -40°C; Packaging: Tape and Reel; Case/Size Code: EP10; Length: 15.24mm; Width: 13.34mm; Height: 11.43mm
footprint WE-PoE_EP10
pins: 1, 2, 3, 4, 5, 6, 7, 8
text: N1; N2; N3

## 750319936
designator T?  (value not drawn)
WE-PoE Power over Ethernet Transformer, SMT, EP10, 40-57Vin, Uo1 = 12V/0.6A; Manufacturer: Wurth Elektronik; Auxiliary Voltage: 12V; Inductance: 235uH; Input Voltage: 40-57VDC; Insulation Test Voltage: 1500V; Leakage Inductance: 3uH; Output Current 1: 0.6A; Saturation Current: 0.7A; Switching Frequency: 200-500kHz; Manufacturer Part Number: 750319936; Category: Transformers For DC-DC Converter; Match Code: WE-PoE; ComponentLink1Description: Website Link; ComponentLink1URL: https://www.we-online.com/redexpert/article/750319936?ad; ComponentLink2Description: Datasheet Link; ComponentLink2URL: https://www.we-online.com/redexpert/spec/750319936?ad; Mount: Surface Mount; Operating Temperature Max: 125°C; Operating Temperature Min: -40°C; Packaging: Tape and Reel; Case/Size Code: EP10; Length: 15.24mm; Width: 13.34mm; Height: 11.43mm; Output Voltage 1: 12V
footprint WE-PoE_EP10
pins: 1, 2, 3, 4, 5, 6, 7, 8
text: N1; N2; N3

## 750344488
designator T?  (value not drawn)
WE-PoE Power over Ethernet Transformer, SMT, EFD20, 9-60Vin, Uo1 = 12V/2A; Manufacturer: Wurth Elektronik; Auxiliary Voltage: 12V; Inductance: 14uH; Input Voltage: 9-60VDC; Insulation Test Voltage: 1500V; Leakage Inductance: 0.3uH; Output Current 1: 2A; Switching Frequency: 200-500kHz; Turns Ratio: 1.33:1:1; Manufacturer Part Number: 750344488; Category: Transformers For DC-DC Converter; Match Code: WE-PoE; ComponentLink1Description: Website Link; ComponentLink1URL: https://www.we-online.com/redexpert/article/750344488?ad; ComponentLink2Description: Datasheet Link; ComponentLink2URL: https://www.we-online.com/redexpert/spec/750344488?ad; Mount: Surface Mount; Operating Temperature Max: 125°C; Operating Temperature Min: -40°C; Packaging: Tape and Reel; Case/Size Code: EFD20; Length: 26.1mm; Width: 22mm; Height: 10.92mm; Output Voltage 1: 12V
footprint WE-PoE_EFD20_750344488
pins: 1, 3, 4, 5, 6, 7, 9, 10
text: N1; N2; N3

## 7491192912
designator T?  (value not drawn)
WE-PoE Power over Ethernet Transformer, SMT, ER14.5/6, 36-57Vin, Uo1 = 12V/0.58A, Uo2 = 5V/1.4A, Uo3 = 3.3V/2.1A; Manufacturer: Wurth Elektronik; Inductance: 210uH; Input Voltage: 36-57VDC; Insulation Test Voltage: 1500V; Leakage Inductance: 2.5uH; Output Power: 7W; Output Voltage 2: 5V; Saturation Current: 0.6A; Switching Frequency: 200-500kHz; Turns Ratio: 12:1.5:1:3.5:5; Manufacturer Part Number: 7491192912; Category: Transformers For DC-DC Converter; Match Code: WE-PoE; ComponentLink1Description: Website Link; ComponentLink1URL: https://www.we-online.com/redexpert/article/7491192912?ad; ComponentLink2Description: Datasheet Link; ComponentLink2URL: https://www.we-online.com/redexpert/spec/7491192912?ad; Mount: Surface Mount; Operating Temperature Max: 125°C; Operating Temperature Min: -40°C; Packaging: Tape and Reel; Case/Size Code: ER14.5/6; Length: 16.3mm; Width: 12mm; Height: 7.4mm
footprint WE-PoE_ER14.5/6
simulation model 7491192912
pins: 1, 3, 5, 6, 7, 8, 9, 10, 11, 12
text: N2; N1; N3; N5; N4

## 7491193912
designator T?  (value not drawn)
WE-PoE Power over Ethernet Transformer, SMT, EFD15, 36-57Vin, Uo1 = 12V/1.2A, Uo2 = 5V/2.8A, Uo3 = 3.3V/4.3A; Manufacturer: Wurth Elektronik; Inductance: 120uH; Input Voltage: 36-57VDC; Insulation Test Voltage: 1500V; Leakage Inductance: 1.5uH; Output Power: 13W; Output Voltage 2: 5V; Saturation Current: 1A; Switching Frequency: 200-500kHz; Turns Ratio: 15:1.5:1:3:5; Manufacturer Part Number: 7491193912; Category: Transformers For DC-DC Converter; Match Code: WE-PoE; ComponentLink1Description: Website Link; ComponentLink1URL: https://www.we-online.com/redexpert/article/7491193912?ad; ComponentLink2Description: Datasheet Link; ComponentLink2URL: https://www.we-online.com/redexpert/spec/7491193912?ad; Mount: Surface Mount; Operating Temperature Max: 125°C; Operating Temperature Min: -40°C; Packaging: Tape and Reel; Case/Size Code: EFD15; Length: 17.5mm; Width: 16mm; Height: 8.3mm
footprint WE-PoE_EFD15
simulation model 7491193912
pins: 1, 3, 5, 6, 7, 8, 9, 10, 11, 12
text: N2; N1; N3; N5; N4

## 7491199112
designator T?  (value not drawn)
WE-PoE Power over Ethernet Transformer, SMT, EP13, 36-57Vin, Uo1 = 12V/0.55A, Uo2 = 12V/0.55A; Manufacturer: Wurth Elektronik; Inductance: 127uH; Input Voltage: 36-57VDC; Insulation Test Voltage: 1500V; Leakage Inductance: 1.3uH; Output Power: 13W; Output Voltage 2: 12V; Saturation Current: 1.3A; Switching Frequency: 200-500kHz; Turns Ratio: 2:1:1:1; Manufacturer Part Number: 7491199112; Category: Transformers For DC-DC Converter; Match Code: WE-PoE; ComponentLink1Description: Website Link; ComponentLink1URL: https://www.we-online.com/redexpert/article/7491199112?ad; ComponentLink2Description: Datasheet Link; ComponentLink2URL: https://www.we-online.com/redexpert/spec/7491199112?ad; Mount: Surface Mount; Operating Temperature Max: 125°C; Operating Temperature Min: -40°C; Packaging: Tape and Reel; Case/Size Code: EP13; Length: 13.46mm; Width: 13mm; Height: 12.7mm
footprint WE-PoE_EP13_L13.46W13H12.7 (Power over Ethernet Transformer, size EP13)
simulation model 7491199112
pins: 1, 2, 3, 4, 7, 8, 9, 10
text: N1; N2; N4; N3

## 7491199212
designator T?  (value not drawn)
WE-PoE Power over Ethernet Transformer, SMT, EP13, 36-57Vin, Uo1 = 12V/0.55A, Uo2 = 12V/0.55A; Manufacturer: Wurth Elektronik; Inductance: 127uH; Input Voltage: 36-57VDC; Insulation Test Voltage: 1500V; Leakage Inductance: 2.3uH; Output Power: 13W; Output Voltage 2: 12V; Saturation Current: 2.4A; Switching Frequency: 200-500kHz; Turns Ratio: 4.8:1.4:1.4:1; Manufacturer Part Number: 7491199212; Category: Transformers For DC-DC Converter; Match Code: WE-PoE; ComponentLink1Description: Website Link; ComponentLink1URL: https://www.we-online.com/redexpert/article/7491199212?ad; ComponentLink2Description: Datasheet Link; ComponentLink2URL: https://www.we-online.com/redexpert/spec/7491199212?ad; Mount: Surface Mount; Operating Temperature Max: 125°C; Operating Temperature Min: -40°C; Packaging: Tape and Reel; Case/Size Code: EP13; Length: 13.46mm; Width: 13mm; Height: 12.7mm
footprint WE-PoE_EP13_L13.46W13H12.7 (Power over Ethernet Transformer, size EP13)
simulation model 7491199212
pins: 1, 2, 3, 4, 7, 8, 9, 10
text: N1; N2; N4; N3

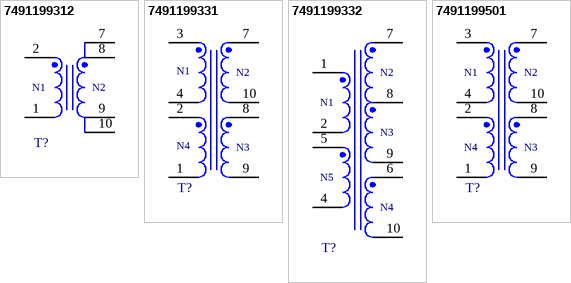
[diagram p1: symbols 7491199312 to 7491199501]

## 7491199312
designator T?  (value not drawn)
WE-PoE Power over Ethernet Transformer, SMT, EP13, 36-57Vin, Uo1 = 12V/1.25A; Manufacturer: Wurth Elektronik; Inductance: 40uH; Input Voltage: 36-57VDC; Insulation Test Voltage: 1500V; Leakage Inductance: 0.56uH; Output Power: 13W; Saturation Current: 3.7A; Switching Frequency: 200-500kHz; Turns Ratio: 1:1; Manufacturer Part Number: 7491199312; Category: Transformers For DC-DC Converter; Match Code: WE-PoE; ComponentLink1Description: Website Link; ComponentLink1URL: https://www.we-online.com/redexpert/article/7491199312?ad; ComponentLink2Description: Datasheet Link; ComponentLink2URL: https://www.we-online.com/redexpert/spec/7491199312?ad; Mount: Surface Mount; Operating Temperature Max: 125°C; Operating Temperature Min: -40°C; Packaging: Tape and Reel; Case/Size Code: EP13; Length: 13.46mm; Width: 13mm; Height: 12.7mm
footprint WE-PoE_EP13_L13.46W13H12.7 (Power over Ethernet Transformer, size EP13)
simulation model 7491199312
pins: 1, 2, 7, 8, 9, 10
text: N1; N2

## 7491199331
designator T?  (value not drawn)
WE-PoE Power over Ethernet Transformer, SMT, EP13, 36-57Vin, Uo1 = 3.3V/2A, Uo2 = 3.3V/2A; Manufacturer: Wurth Elektronik; Inductance: 127uH; Input Voltage: 36-57VDC; Insulation Test Voltage: 1500V; Leakage Inductance: 3.5uH; Output Power: 13W; Output Voltage 2: 3.3V; Saturation Current: 2.3A; Switching Frequency: 200-500kHz; Turns Ratio: 12:1:1:2.5; Manufacturer Part Number: 7491199331; Category: Transformers For DC-DC Converter; Match Code: WE-PoE; ComponentLink1Description: Website Link; ComponentLink1URL: https://www.we-online.com/redexpert/article/7491199331?ad; ComponentLink2Description: Datasheet Link; ComponentLink2URL: https://www.we-online.com/redexpert/spec/7491199331?ad; Mount: Surface Mount; Operating Temperature Max: 125°C; Operating Temperature Min: -40°C; Packaging: Tape and Reel; Case/Size Code: EP13; Length: 13.46mm; Width: 13mm; Height: 12.7mm
footprint WE-PoE_EP13_L13.46W13H12.7 (Power over Ethernet Transformer, size EP13)
simulation model 7491199331
pins: 1, 2, 3, 4, 7, 8, 9, 10
text: N1; N2; N4; N3

## 7491199332
designator T?  (value not drawn)
WE-PoE Power over Ethernet Transformer, SMT, EP13, 36-57Vin, Uo1 = 3.3V/2A, Uo2 = 5V/1A, Uo3 = 5.5V/0.05A; Manufacturer: Wurth Elektronik; Inductance: 35uH; Input Voltage: 36-57VDC; Insulation Test Voltage: 1500V; Leakage Inductance: 0.95uH; Output Power: 13W; Output Voltage 2: 5V; Saturation Current: 2.8A; Switching Frequency: 200-500kHz; Turns Ratio: 9:1:1.5:2.5:4.5; Manufacturer Part Number: 7491199332; Category: Transformers For DC-DC Converter; Match Code: WE-PoE; ComponentLink1Description: Website Link; ComponentLink1URL: https://www.we-online.com/redexpert/article/7491199332?ad; ComponentLink2Description: Datasheet Link; ComponentLink2URL: https://www.we-online.com/redexpert/spec/7491199332?ad; Mount: Surface Mount; Operating Temperature Max: 125°C; Operating Temperature Min: -40°C; Packaging: Tape and Reel; Case/Size Code: EP13; Length: 13.46mm; Width: 13mm; Height: 12.7mm
footprint WE-PoE_EP13_L13.46W13H12.7 (Power over Ethernet Transformer, size EP13)
simulation model 7491199332
pins: 1, 2, 4, 5, 6, 7, 8, 9, 10
text: N2; N1; N3; N5; N4

## 7491199501
designator T?  (value not drawn)
WE-PoE Power over Ethernet Transformer, SMT, EP13, 36-57Vin, Uo1 = 5V/1.3A, Uo2 = 5V/1.3A; Manufacturer: Wurth Elektronik; Inductance: 127uH; Input Voltage: 36-57VDC; Insulation Test Voltage: 1500V; Leakage Inductance: 2.5uH; Output Power: 13W; Output Voltage 2: 5V; Saturation Current: 2.4A; Switching Frequency: 200-500kHz; Turns Ratio: 8:1:1:1.67; Manufacturer Part Number: 7491199501; Category: Transformers For DC-DC Converter; Match Code: WE-PoE; ComponentLink1Description: Website Link; ComponentLink1URL: https://www.we-online.com/redexpert/article/7491199501?ad; ComponentLink2Description: Datasheet Link; ComponentLink2URL: https://www.we-online.com/redexpert/spec/7491199501?ad; Mount: Surface Mount; Operating Temperature Max: 125°C; Operating Temperature Min: -40°C; Packaging: Tape and Reel; Case/Size Code: EP13; Length: 13.46mm; Width: 13mm; Height: 12.7mm
footprint WE-PoE_EP13_L13.46W13H12.7 (Power over Ethernet Transformer, size EP13)
simulation model 7491199501
pins: 1, 2, 3, 4, 7, 8, 9, 10
text: N1; N2; N4; N3